# Altium footprint library CAPS.PcbLib: 166 footprints (part 11 of 11)
Each footprint in its own frame and in the unit in brackets; x right, y up, seen from the top. Pads: shape width x height; smd on the part's side, far side on the other; paste and mask are expansions set on the pad; w line width, h text height; cw(c..) or ccw(c..) is an arc to the next point about the centre after c.
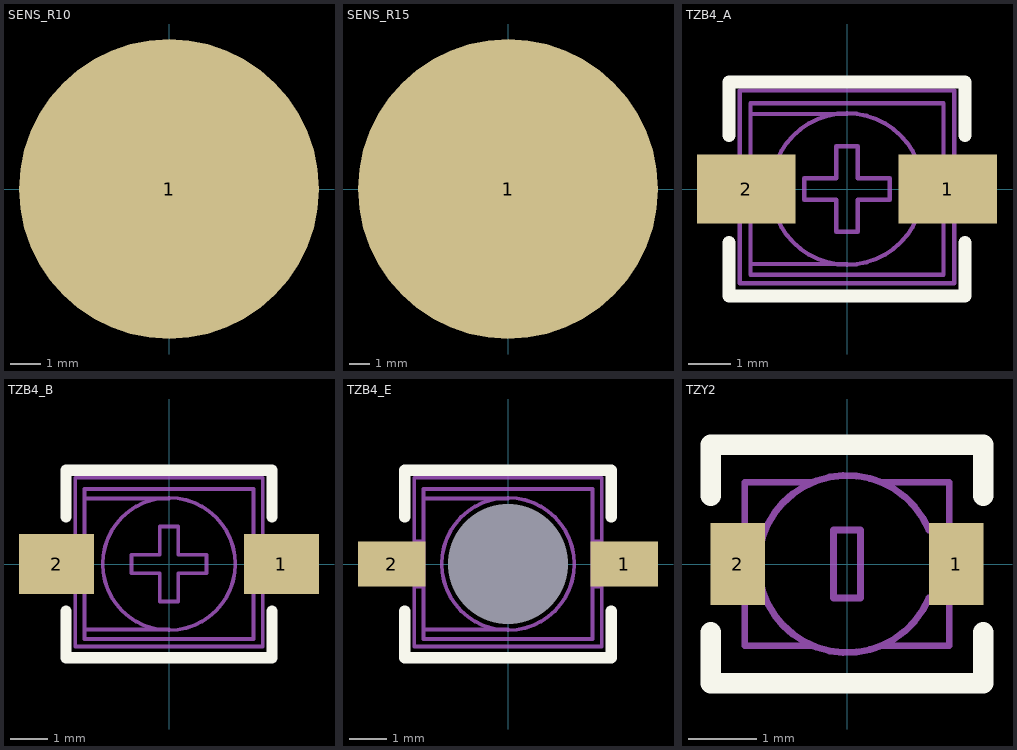
[diagram p10: the footprints below, top view; thin cyan lines are the x and y axes]

## SENS_R10 [mm] "Touch capacitive sensor"
pads (1):
  round 10 smd paste-10 mask-10: 1(0,0)
Top Overlay:
  circle w0.2: c0,0 r3

## SENS_R15 [mm] "Touch capacitive sensor"
pads (1):
  round 15 smd paste-10 mask-10: 1(0,0)
Top Overlay:
  circle w0.2: c0,0 r5

## TZB4_A [mm]
height 3
pads (2):
  rect 2.3x1.6 smd: 1(2.35,0) 2(-2.35,0)
Top Overlay:
  lines w0.3: -2.75,-1.25 -2.75,-2.5 2.75,-2.5 2.75,-1.25 ; -2.75,1.25 -2.75,2.5 2.75,2.5 2.75,1.25
Mechanical 1:
  circle w0.1: c0,0 r1.768
  lines w0.1: -2.25,-1.75 0,-1.75 ; -2.25,-0.6 -2.5,-0.6 -2.5,0.6 -2.25,0.6 ; -2.25,1.75 0,1.75 ; 2.25,-0.6 2.5,-0.6 2.5,0.6 2.25,0.6 ; -2.25,-2 2.25,-2 2.25,2 -2.25,2 -2.25,-2 ; -1,-0.25 -1,0.25 -0.25,0.25 -0.25,1 0.25,1 0.25,0.25 1,0.25 1,-0.25 0.25,-0.25 0.25,-1 -0.25,-1 -0.25,-0.25 -1,-0.25
Mechanical 5:
  lines w0.1: -2.5,-2.2 2.5,-2.2 2.5,2.3 -2.5,2.3 -2.5,-2.2
  text ".Designator" at -1.8,-0.8 h1.5
Mechanical 6:
  lines w0.1: -2.5,-2.2 -2.5,2.3 2.5,2.3 2.5,-2.2 -2.5,-2.2
  text ".Comment" at -1.8,-0.8 h1.5
3D body: height 3, standoff 0.1, extent -2.2,-2 2.2,2

## TZB4_B [mm]
height 3
pads (2):
  rect 2x1.6 smd: 1(3,0) 2(-3,0)
Top Overlay:
  lines w0.3: -2.75,-1.25 -2.75,-2.5 2.75,-2.5 2.75,-1.25 ; -2.75,1.25 -2.75,2.5 2.75,2.5 2.75,1.25
Mechanical 1:
  circle w0.1: c0,0 r1.768
  lines w0.1: -2.25,-1.75 0,-1.75 ; -2.25,-0.6 -3.5,-0.6 -3.5,0.6 -2.25,0.6 ; -2.25,1.75 0,1.75 ; 2.25,-0.6 3.5,-0.6 3.5,0.6 2.25,0.6 ; -2.25,-2 2.25,-2 2.25,2 -2.25,2 -2.25,-2 ; -1,-0.25 -1,0.25 -0.25,0.25 -0.25,1 0.25,1 0.25,0.25 1,0.25 1,-0.25 0.25,-0.25 0.25,-1 -0.25,-1 -0.25,-0.25 -1,-0.25
Mechanical 5:
  lines w0.1: -2.5,-2.2 -2.5,2.3 2.5,2.3 2.5,-2.2 -2.5,-2.2
  text ".Designator" at -1.8,-0.8 h1.5
Mechanical 6:
  lines w0.1: -2.5,-2.2 2.5,-2.2 2.5,2.3 -2.5,2.3 -2.5,-2.2
  text ".Comment" at -1.8,-0.8 h1.5
3D body: height 3, standoff 0.1, extent -2.2,-2 2.2,2

## TZB4_E [mm]
height 3
pads (3):
  rect 1.8x1.2 smd: 1(3.1,0) 2(-3.1,0)
  round 0 hole 3.2 unplated mask+1.8: TuneHole(0,0)
Top Overlay:
  lines w0.3: -2.75,-1.25 -2.75,-2.5 2.75,-2.5 2.75,-1.25 ; -2.75,1.25 -2.75,2.5 2.75,2.5 2.75,1.25
Mechanical 1:
  circle w0.1: c0,0 r1.768
  lines w0.1: -2.25,-1.75 0,-1.75 ; -2.25,-0.6 -2.5,-0.6 -2.5,-0.4 -3.5,-0.4 -3.5,0.4 -2.5,0.4 -2.5,0.6 -2.25,0.6 ; -2.25,1.75 0,1.75 ; 2.25,-0.6 2.5,-0.6 2.5,-0.4 3.5,-0.4 3.5,0.4 2.5,0.4 2.5,0.6 2.25,0.6 ; -2.25,-2 -2.25,2 2.25,2 2.25,-2 -2.25,-2 ; -1,-0.25 -0.25,-0.25 -0.25,-1 0.25,-1 0.25,-0.25 1,-0.25 1,0.25 0.25,0.25 0.25,1 -0.25,1 -0.25,0.25 -1,0.25 -1,-0.25
Mechanical 5:
  lines w0.1: -2.5,-2.2 -2.5,2.3 2.5,2.3 2.5,-2.2 -2.5,-2.2
  text ".Designator" at -1.8,-0.8 h1.5
Mechanical 6:
  lines w0.1: -2.5,-2.2 2.5,-2.2 2.5,2.3 -2.5,2.3 -2.5,-2.2
  text ".Comment" at -1.8,-0.8 h1.5
3D body: height 3, standoff 0.1, extent -2.2,-2 2.2,2

## TZY2 [mm]
height 1.3
pads (2):
  rect 0.8x1.2 smd: 1(1.6,0) 2(-1.6,0)
Top Overlay:
  lines w0.3: -2,-1 -2,-1.75 2,-1.75 2,-1 ; -2,1 -2,1.75 2,1.75 2,1
Mechanical 1:
  lines w0.1: -0.5,-1.2 -1.5,-1.2 -1.5,1.2 -0.5,1.2 ; 0.5,-1.2 1.5,-1.2 1.5,-0.5 ; 0.5,1.2 1.5,1.2 1.5,0.5 ; -0.2,-0.5 0.2,-0.5 0.2,0.5 -0.2,0.5 -0.2,-0.5 ; 1.2,-0.5 cw(c0,0) 1.2,0.5 1.7,0.5 1.7,-0.5 1.2,-0.5